# Altium footprint library 629105136821.PcbLib: 1 footprints
Each footprint in its own frame and in the unit in brackets; x right, y up, seen from the top. Pads: shape width x height; smd on the part's side, far side on the other; paste and mask are expansions set on the pad; w line width, h text height; cw(c..) or ccw(c..) is an arc to the next point about the centre after c.
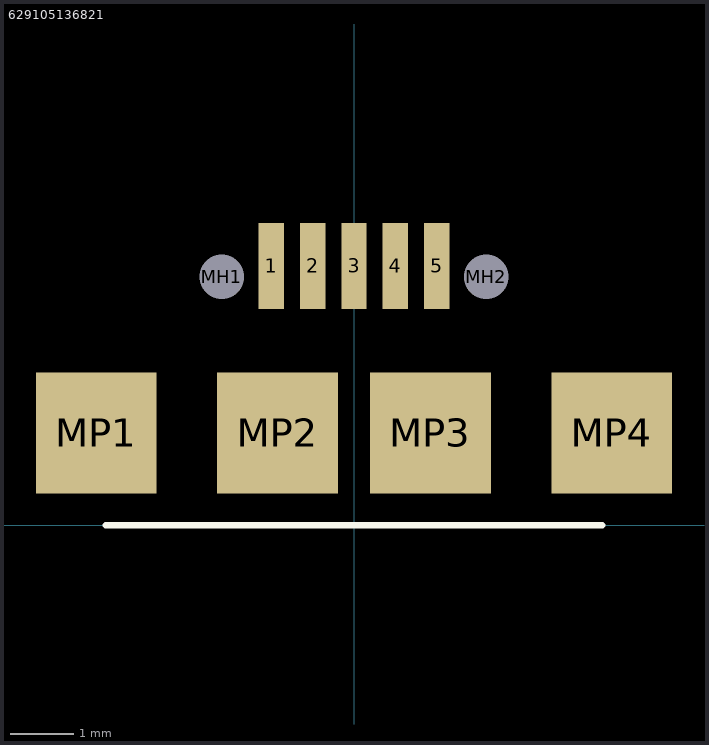
[diagram p0: the footprint, top view; thin cyan lines are the x and y axes]

## 629105136821 [mm] "629105136821"
height 2.7
pads (11):
  rect 0.4x1.35 smd: 1(-1.3,4.075) 2(-0.65,4.075) 3(0,4.075) 4(0.65,4.075) 5(1.3,4.075)
  round 0.686 hole 0.7 unplated paste+0 mask-0.2: MH1(-2.075,3.9) MH2(2.075,3.9)
  rect 1.9x1.9 smd: MP1(-4.05,1.45) MP2(-1.2,1.45) MP3(1.2,1.45) MP4(4.05,1.45)
Top Overlay:
  lines w0.1: -3.9,0 3.9,0
3D body: height 2.7, standoff -0.6, extent -4,-1.328 4,4.575